# Altium schematic symbol library SCH - POWER - LINEAR VREG - TI TLV2217-18_PW_20.SchLib: 1 symbol
Pins are listed as number, name and electrical type; pins without a type are passive.

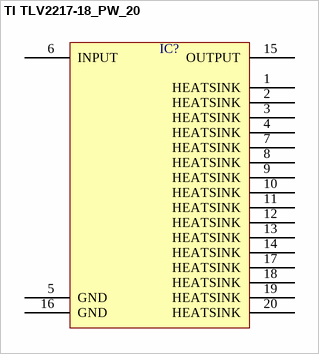
[diagram p0: symbol TI TLV2217-18_PW_20]

## TI TLV2217-18_PW_20
designator IC?  (value not drawn)
pins: 1 HEATSINK, 2 HEATSINK, 3 HEATSINK, 4 HEATSINK, 5 GND, 6 INPUT, 7 HEATSINK, 8 HEATSINK, 9 HEATSINK, 10 HEATSINK, 11 HEATSINK, 12 HEATSINK, 13 HEATSINK, 14 HEATSINK, 15 OUTPUT, 16 GND, 17 HEATSINK, 18 HEATSINK, 19 HEATSINK, 20 HEATSINK